# Altium footprint library B_UN_C.PcbLib: 17 footprints (part 1 of 2)
Each footprint in its own frame and in the unit in brackets; x right, y up, seen from the top. Pads: shape width x height; smd on the part's side, far side on the other; paste and mask are expansions set on the pad; w line width, h text height; cw(c..) or ccw(c..) is an arc to the next point about the centre after c.
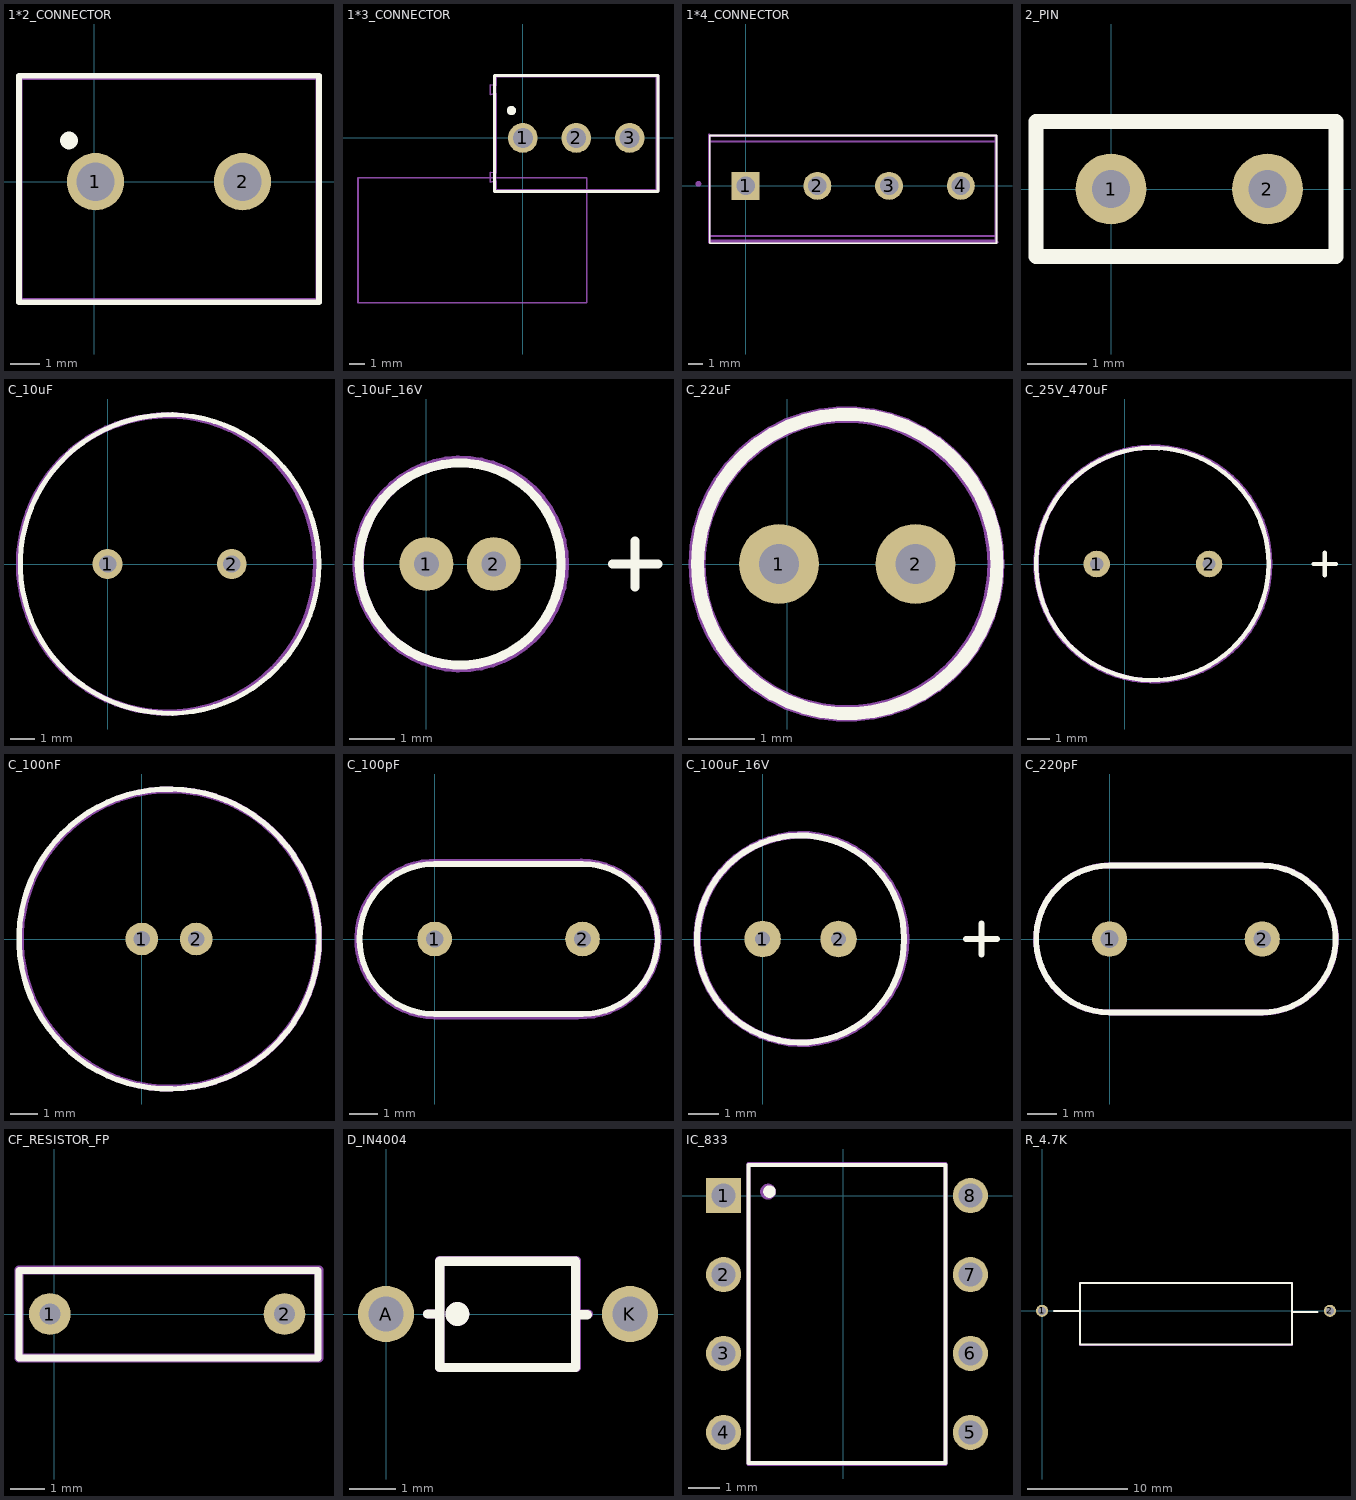
[diagram p0: the footprints below, top view; thin cyan lines are the x and y axes]

## 1*2_CONNECTOR [mm]
pads (2):
  round 1.95 hole 1.3: 1(0.04,0) 2(5.04,0)
Top Overlay:
  circle w0.4: c-0.86,1.4 r0.1
  lines w0.2: -2.56,-4.1 -2.56,3.6 7.64,3.6 7.64,-4.1 -2.56,-4.1
Mechanical 1:
  lines w0.2: -2.54,-4.064 7.62,-4.064 7.62,3.556 -2.54,3.556 -2.54,-4.064
Mechanical 2:
  text ".Designator" at -2.286,-0.508 h1.52
3D body "691137710002.stp": height 12, standoff -3.1, extent -2.49,-4.106 7.51,3.394

## 1*3_CONNECTOR [mm]
pads (3):
  round 1.95 hole 1.3: 1(0,0) 2(3.5,0) 3(7,0)
Top Overlay:
  circle w0.4: c-0.75,1.8 r0.1
  lines w0.2: -1.85,-3.5 8.85,-3.5 8.85,4.1 -1.85,4.1 -1.85,3.52 -1.85,2.82 -1.85,-2.22 -1.85,-2.92 -1.85,-3.5
Mechanical 1:
  circle w0.254: c-0.762,1.778 r0.119
  lines w0.2: -1.837,4.105 -1.837,-3.488 -1.818,-3.508 8.811,-3.508 8.861,-3.458 8.861,4.101 8.854,4.108 -1.835,4.108
Mechanical 2:
  text ".Designator" at -1.016,-0.508 h1.52
Mechanical 13:
  lines w0.1: -10.811,-10.801 -10.811,-2.601 4.189,-2.601 4.189,-10.801 -10.811,-10.801 ; -2.15,-2.895 -2.15,-2.245 -1.75,-2.32 -1.75,2.92 -2.15,2.845 -2.15,3.495 -1.75,3.42 -1.75,4 8.75,4 8.75,-3.4 -1.75,-3.4 -1.75,-2.82 -2.15,-2.895
3D body "691214110003_Download_STP_691214110003_rev1.stp": height 8.7, standoff -3.5, extent -2.094,-3.446 8.806,3.954

## 1*4_CONNECTOR [mm]
pads (4):
  rect 1.95x1.95 hole 1.3: 1(0,0)
  round 1.95 hole 1.3: 2(5,0) 3(10,0) 4(15,0)
Top Overlay:
  lines w0.127: -2.5,-4 17.5,-4 17.5,3.5 -2.5,3.5 -2.5,-4
Mechanical 1:
  lines w0.2: -2.54,3.556 -2.54,-3.937 17.526,-3.937 17.464,-3.875 17.464,3.367 17.464,3.494 -2.478,3.494
Mechanical 2:
  text ".Designator" at -1.143,-0.889 h1.52
Mechanical 13:
  circle w0.2: c-3.295,0.135 r0.1
  lines w0.127: -2.5,-3.8 17.5,-3.8 ; -2.5,-3.8 -2.5,-4 17.5,-4 17.5,-3.8 ; -2.5,-3.8 -2.5,-3.5 ; -2.5,-3.5 17.5,-3.5 ; -2.5,-3.5 -2.5,3.1 ; -2.5,3.1 17.5,3.1 ; -2.5,3.1 -2.5,3.5 17.5,3.5 17.5,3.1 ; 17.5,-3.8 17.5,-3.5 ; 17.5,-3.5 17.5,3.1
3D body "691137710004--3DModel-STEP-56544.STEP": height 11.61, standoff -3.59, extent -2.507,-3.944 17.493,3.556

## 2_PIN [mm]
pads (2):
  round 1.2 hole 0.65: 1(0,0) 2(2.65,0)
Top Overlay:
  lines w0.254: -1.27,-1.143 -1.27,1.143 3.81,1.143 3.81,-1.143 -1.27,-1.143

## C_10uF [mm]
pads (2):
  round 1.2 hole 0.7: 1(0,0) 2(4.992,0)
Top Overlay:
  circle w0.2: c2.496,0 r6
Mechanical 1:
  circle w0.254: c2.413,0 r5.97
  text ".Designator" at -2.54,-0.889 h1.52
3D body "U1-T_NCH.step": height 19.75, standoff -4.37, extent -2.506,-5.004 7.506,5.004

## C_10uF_16V [mm]
pads (2):
  round 1.2 hole 0.55: 1(0,0) 2(1.5,0)
Top Overlay:
  circle w0.2: c0.75,0 r2.25
  lines w0.2: 4.143,0 5.159,0 ; 4.651,-0.508 4.651,0.508
Mechanical 1:
  circle w0.254: c0.762,0 r2.286
Mechanical 2:
  text ".Designator" at -1.143,-0.762 h1.52
3D body "CAP_UHC_4X7_NCH.step": height 8.02, standoff -3.91, extent -1.244,-1.994 2.755,1.994

## C_22uF [mm]
pads (2):
  round 1.2 hole 0.6: 1(-0.127,0) 2(1.927,0)
Top Overlay:
  circle w0.2: c0.9,0 r2.25
Mechanical 1:
  circle w0.254: c0.889,0 r2.247
Mechanical 2:
  text ".Designator" at -1.143,-0.762 h1.52
3D body "CAP_UEP_5X11_NCH.step": height 12.71, standoff -3.86, extent -1.626,-2.481 3.388,2.517

## C_25V_470uF [mm]
pads (2):
  round 1.2 hole 0.6: 1(-1.27,0) 2(3.81,0)
Top Overlay:
  circle w0.2: c1.25,0 r5.25
  lines w0.2: 8.532,0 9.548,0 ; 9.04,-0.508 9.04,0.508
Mechanical 1:
  circle w0.254: c1.27,0 r5.282
Mechanical 2:
  text ".Designator" at -2.794,-0.762 h1.52
3D body "CAP_UBX_10X16_NCH.step": height 17.52, standoff -4.37, extent -3.747,-4.97 6.266,5.038

## C_100nF [mm]
pads (2):
  round 1.2 hole 0.6: 1(0,0) 2(1.992,0)
Top Overlay:
  circle w0.2: c0.996,0 r5.5
Mechanical 1:
  circle w0.254: c1.016,0 r5.471
Mechanical 2:
  text ".Designator" at -3.429,-0.127 h1.52
3D body "CAP_UEP_5X11_NCH.step": height 12.51, standoff -4.06, extent -1.548,-2.508 3.466,2.49

## C_100pF [mm]
pads (2):
  round 1.2 hole 0.6: 1(0,0) 2(5.12,0)
Top Overlay:
  lines w0.2: 0,-2.6 cw(c0,0) 0,2.6 5.12,2.6 cw(c5.12,0) 5.12,-2.6 0,-2.6
Mechanical 1:
  lines w0.254: 4.944,-2.652 0,-2.652 cw(c0,0) 0.132,2.649 5.077,2.649 ; 4.948,-2.649 ccw(c5.08,0) 5.08,2.652
  text ".Designator" at -1.524,-0.762 h1.52

## C_100uF_16V [mm]
pads (2):
  round 1.2 hole 0.5: 1(0,0) 2(2.492,0)
Top Overlay:
  circle w0.2: c1.246,0 r3.4
  lines w0.2: 6.678,0 7.694,0 ; 7.186,-0.508 7.186,0.508
Mechanical 1:
  circle w0.254: c1.27,0 r3.42
Mechanical 2:
  text ".Designator" at -1.778,-0.889 h1.52
3D body "ESS107M016AE2EA.step": height 8.76, standoff -19.75, extent -2.13,-3.414 4.67,3.4

## C_220pF [mm]
pads (2):
  round 1.2 hole 0.6: 1(0,0) 2(5.2,0)
Top Overlay:
  lines w0.2: 0,-2.5 cw(c0,0) 0,2.5 5.2,2.5 cw(c5.2,0) 5.2,-2.5 0,-2.5
Mechanical 1:
  lines w0.2: 5.085,-2.505 0,-2.505 cw(c0,0) 0.119,2.502 5.204,2.502 ; 5.088,-2.502 ccw(c5.207,0) 5.207,2.505
Mechanical 2:
  text ".Designator" at -1.524,-0.635 h1.52

## CF_RESISTOR_FP [mm]
pads (2):
  round 1.2 hole 0.6: 1(-0.127,0) 2(6.627,0)
Top Overlay:
  lines w0.2: -1.016,-1.27 -1.016,1.25 7.585,1.25 7.585,0 7.585,-1.27 -1.016,-1.27
Mechanical 1:
  lines w0.254: -1.016,-1.27 7.62,-1.27 7.62,1.27 -1.016,1.27 -1.016,-1.27
Mechanical 2:
  text ".Designator" at -0.762,-0.889 h1.52

## D_IN4004 [mm]
pads (2):
  round 1.2 hole 0.75: A(0,0) K(5.21,0)
Top Overlay:
  circle w0.254: c1.524,0 r0.127
  lines w0.2: 0.889,0 1.143,0 ; 1.143,-1.143 4.046,-1.143 4.046,1.125 1.143,1.125 1.143,-1.125 ; 4.064,-0.018 4.3,-0.018
Mechanical 1:
  circle w0.254: c1.524,0 r0.127
  lines w0.2: 0.889,0 1.143,0 ; 1.143,0 1.143,1.143 4.064,1.143 4.064,0 ; 1.143,0 1.143,-1.143 4.064,-1.143 4.064,0 ; 4.064,0 4.318,0 4.064,0
Mechanical 2:
  text ".Designator" at 1.293,-0.279 h1

## IC_833 [mm]
pads (8):
  rect 1.13x1.13 hole 0.78: 1(-3.843,0)
  round 1.13 hole 0.78: 2(-3.843,-2.54) 3(-3.843,-5.08) 4(-3.843,-7.62) 5(4.097,-7.62) 6(4.097,-5.08) 7(4.097,-2.54) 8(4.097,0)
Top Overlay:
  circle w0.2: c-2.368,0.127 r0.1
  lines w0.127: -3.048,-8.605 -3.048,0.985 3.302,0.985 3.302,-8.605 -3.048,-8.605
Mechanical 1:
  circle w0.254: c-2.413,0.127 r0.127
  lines w0.127: -3.048,-8.636 3.302,-8.636 3.302,1.016 -3.048,1.016 -3.048,-8.636
Mechanical 2:
  text ".Designator" at -0.381,0.127 h1.52
3D body "LM833P.STEP": height 5.58, standoff -3.31, extent -3.683,-8.604 4.191,0.984

## R_4.7K [mm]
pads (2):
  round 1.2 hole 0.8: 1(0,0) 2(28.702,0)
Top Overlay:
  lines w0.2: 1.2,0 3.775,0 ; 24.892,-0.127 27.467,-0.127 ; 3.775,-3.373 3.775,0.127 3.775,2.794 6.823,2.794 24.892,2.794 24.892,-3.373 6.823,-3.373 3.775,-3.373
Mechanical 1:
  lines w0.2: 3.81,-3.429 3.81,2.794 24.892,2.794 24.892,-3.429 3.81,-3.429
Mechanical 13:
  text ".Designator" at 5.334,-0.889 h1.52
3D body "RES_OY_OHM.step": height 4.47, standoff -2.79, extent -0.394,-2.358 29.096,2.104